# EAGLE library part OPA2363 (library texas-instruments)
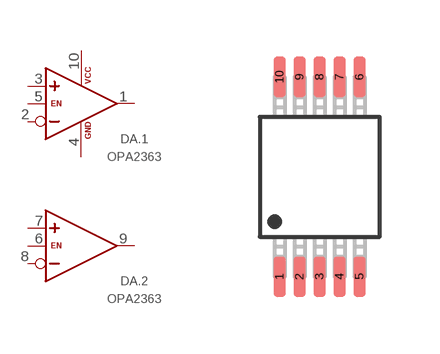
[diagram p17: symbol with the pads of MSOP10; footprint MSOP10]

Designator prefix DA; gates .1=OPERATIONAL_AMPLIFIER_OPA2363 .2=OPERATIONAL_AMPLIFIER_OPA2363 G$3=OPERATIONAL_AMPLIFER_OPA2363_POWER

## OPA2363AIDGSR  [MSOP10]
1  .1:OUT  out
2  .1:IN-  in
3  .1:IN+  in
4  G$3:GND  pwr
5  .1:EN  in
6  .2:EN  in
7  .2:IN+  in
8  .2:IN-  in
9  .2:OUT  out
10  G$3:VCC  pwr

## OPA2363AIDGST  [MSOP10]
Pads as for MSOP10

## OPA2363IDGSR  [MSOP10]
Pads as for MSOP10

## OPA2363IDGST  [MSOP10]
Pads as for MSOP10

## Footprint MSOP10 (pad centres in mm)
smd 0.3 x 1: 1 -2.5,-1.5; 2 -2,-1.5; 3 -1.5,-1.5; 4 -1,-1.5; 5 -0.5,-1.5; 6 -0.5,3.5; 7 -1,3.5; 8 -1.5,3.5; 9 -2,3.5; 10 -2.5,3.5